# Altium integrated library Renesas Transistor.IntLib: 835 symbols (part 6 of 18)
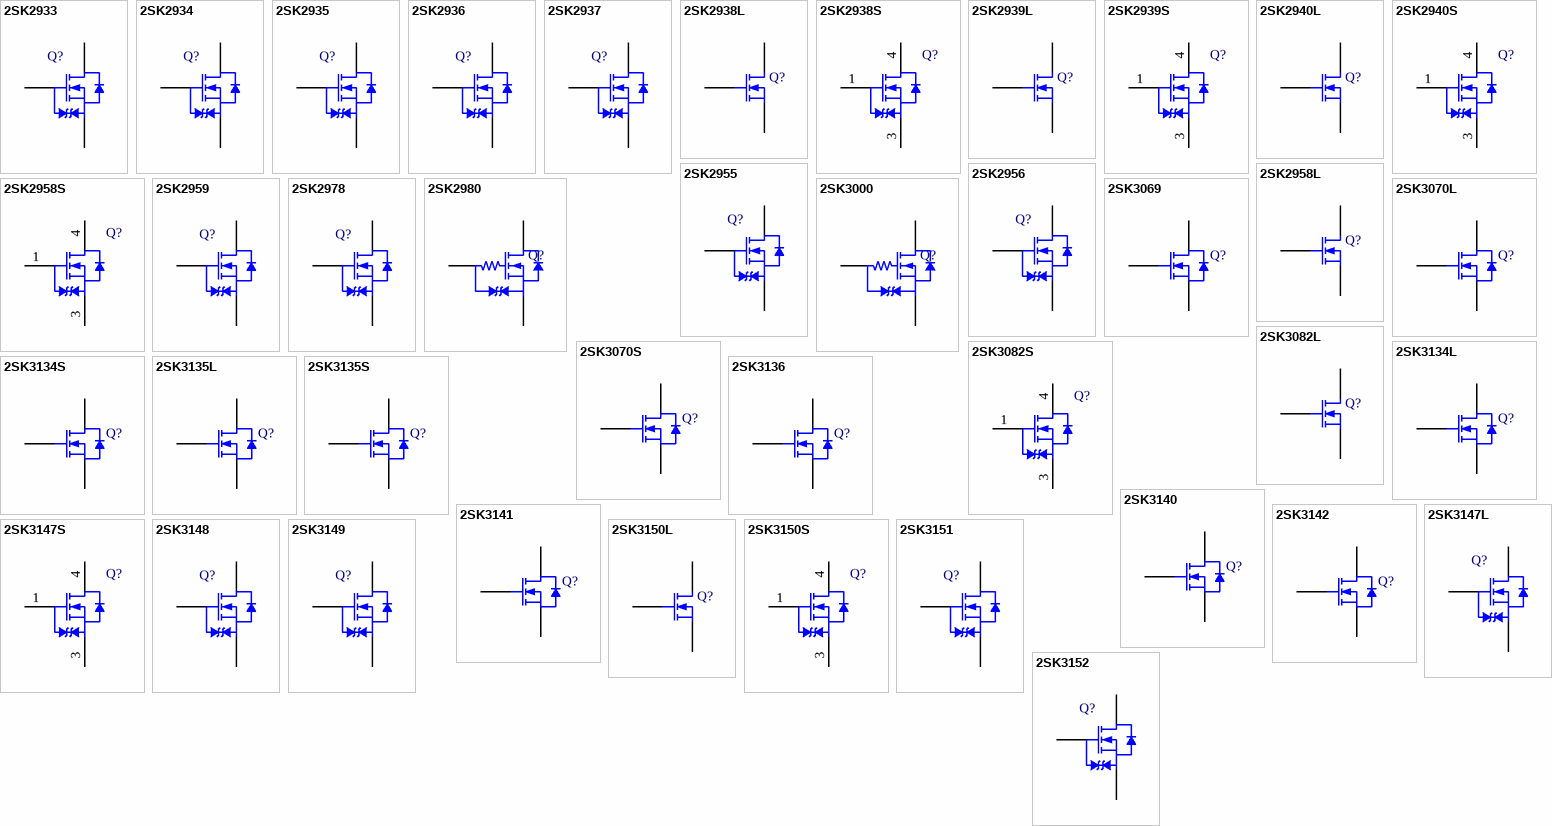
[diagram p27: symbols 2SK2933 to 2SK3152]

## 2SK2958L
designator Q?
Silicon N-Channel MOSFET, High Speed Power Switching; Published: 30-Oct-2009; DatasheetVersion: Rev.4.00, Sep-2005; PackageVersion: Sep-2005; PackageReference: PRSS0004AE-A; Publisher: Altium Limited; PackageDescription: TO, Thru-Hole, Vertical, Heatsink Mounted; 3 In-Line Leads; Pitch 2.54 mm (LDPAK(L)); ComponentLink1Description: Manufacturer Link; ComponentLink1URL: http://sg.renesas.com/fmwk.jsp?cnt=discrete_category_landing.jsp&fp=/products/discrete/; ComponentLink2Description: Datasheet; ComponentLink2URL: http://documentation.renesas.com/eng/products/transistor/rej03g1058_2sk2958lsds.pdf; ComponentLink3Description: Packaging Specification; ComponentLink3URL: http://sg.renesas.com/media/products/common_info/package/pdf/transistor/code/prss0004ae_a.pdf
footprint PRSS0004AE-A (TO, Thru-Hole, Vertical, Heatsink Mounted; 3 In-Line Leads; Pitch 2.54 mm)
pins: 1 G, 2 D, 3 S

## 2SK2958S
designator Q?
Silicon N-Channel MOSFET, High Speed Power Switching; Published: 30-Oct-2009; DatasheetVersion: Rev.4.00, Sep-2005; PackageVersion: Sep-2005; PackageReference: PRSS0004AE-B; Publisher: Altium Limited; PackageDescription: 3-Pin Plastic Transistor Outline Package 8.6 x 10.2 mm Body (LDPAK(S)-(1)); Code_JEITA: SC-83; ComponentLink1Description: Manufacturer Link; ComponentLink1URL: http://sg.renesas.com/fmwk.jsp?cnt=discrete_category_landing.jsp&fp=/products/discrete/; ComponentLink2Description: Datasheet; ComponentLink2URL: http://documentation.renesas.com/eng/products/transistor/rej03g1058_2sk2958lsds.pdf; ComponentLink3Description: Packaging Specification; ComponentLink3URL: http://sg.renesas.com/media/products/common_info/package/pdf/transistor/code/prss0004ae_b.pdf
footprint PRSS0004AE-B_N (TO, 4-Leads, Body 8.6x10.2mm, Pitch 2.54mm, Lead Span 12.8mm, IPC Medium Density)
footprint PRSS0004AE-B_L (TO, 4-Leads, Body 8.6x10.2mm, Pitch 2.54mm, Lead Span 12.8mm, IPC High Density)
footprint PRSS0004AE-B_M (TO, 4-Leads, Body 8.6x10.2mm, Pitch 2.54mm, Lead Span 12.8mm, IPC Low Density)
pins: 1 G, 3 S, 4 D

## 2SK2959
designator Q?
Silicon N-Channel MOSFET, High Speed Power Switching; Published: 30-Oct-2009; DatasheetVersion: Rev.5.00, Sep-2005; PackageVersion: Sep-2005; PackageReference: PRSS0004AC-A; Publisher: Altium Limited; PackageDescription: TO, Thru-Hole, Vertical, Heatsink Mounted; 3 In-Line Leads; Pitch 2.54 mm (TO-220AB); Code_JEITA: SC-46; ComponentLink1Description: Manufacturer Link; ComponentLink1URL: http://sg.renesas.com/fmwk.jsp?cnt=discrete_category_landing.jsp&fp=/products/discrete/; ComponentLink2Description: Datasheet; ComponentLink2URL: http://documentation.renesas.com/eng/products/transistor/rej03g1059_2sk2959ds.pdf; ComponentLink3Description: Packaging Specification; ComponentLink3URL: http://sg.renesas.com/media/products/common_info/package/pdf/transistor/code/prss0004ac_a.pdf
footprint PRSS0004AC-A (TO, Thru-Hole, Vertical, Heatsink Mounted; 3 In-Line Leads; Pitch 2.54 mm)
pins: 1 G, 2 D, 3 S

## 2SK2978
designator Q?
Silicon N-Channel MOSFET, High Speed Power Switching; Published: 30-Oct-2009; DatasheetVersion: Rev.5.00, Sep-2005; PackageVersion: Jan-2005; PackageReference: PLZZ0004CA-A; Publisher: Altium Limited; PackageDescription: 3-Pin Plastic SOT-89 Package 1.5 mm Pitch, 4 mm Lead Span; Code_JEITA: SC-62; Code_IPC: SOT89; ComponentLink1Description: Manufacturer Link; ComponentLink1URL: http://sg.renesas.com/fmwk.jsp?cnt=discrete_category_landing.jsp&fp=/products/discrete/; ComponentLink2Description: Datasheet; ComponentLink2URL: http://documentation.renesas.com/eng/products/transistor/rej03g1060_2sk2978ds.pdf; ComponentLink3Description: Packaging Specification; ComponentLink3URL: http://sg.renesas.com/media/products/common_info/package/pdf/transistor/code/plzz0004ca_a.pdf
footprint PLZZ0004CA-A_N (SOT89, 3-Leads, Body 4.5x2.5 mm, Pitch 1.5mm, Lead Span 4mm, IPC Medium Density)
footprint PLZZ0004CA-A_L (SOT89, 3-Leads, Body 4.5x2.5 mm, Pitch 1.5mm, Lead Span 4mm, IPC High Density)
footprint PLZZ0004CA-A_M (SOT89, 3-Leads, Body 4.5x2.5 mm, Pitch 1.5mm, Lead Span 4mm, IPC Low Density)
pins: 1 G, 2 D, 3 S

## 2SK2980
designator Q?
Silicon N-Channel MOSFET, High Speed Power Switching; Published: 30-Oct-2009; DatasheetVersion: Rev.4.00, Sep-2005; PackageVersion: Sep-2005; PackageReference: PLSP0003ZB-A; Publisher: Altium Limited; PackageDescription: 3-Pin Plastic SOT-23 Package 0.95 mm Pitch, 2.8 mm Lead Span - Alternate Lead Configuration; Code_JEITA: SC-59A; ComponentLink1Description: Manufacturer Link; ComponentLink1URL: http://sg.renesas.com/fmwk.jsp?cnt=discrete_category_landing.jsp&fp=/products/discrete/; ComponentLink2Description: Datasheet; ComponentLink2URL: http://documentation.renesas.com/eng/products/transistor/rej03g1061_2sk2980ds.pdf; ComponentLink3Description: Packaging Specification; ComponentLink3URL: http://sg.renesas.com/media/products/common_info/package/pdf/transistor/code/plsp0003zb_a.pdf
footprint PLSP0003ZB-A_N (SOT23, 3-Leads, Body 2.9x1.5mm, Pitch 0.95mm, Lead Span 2.8mm - Alternate Lead Configuration, IPC Medium Density)
footprint PLSP0003ZB-A_L (SOT23, 3-Leads, Body 2.9x1.5mm, Pitch 0.95mm, Lead Span 2.8mm - Alternate Lead Configuration, IPC High Density)
footprint PLSP0003ZB-A_M (SOT23, 3-Leads, Body 2.9x1.5mm, Pitch 0.95mm, Lead Span 2.8mm - Alternate Lead Configuration, IPC Low Density)
pins: 1 S, 2 G, 3 D

## 2SK3000
designator Q?
Silicon N-Channel MOSFET, Low Frequency Power Switching; Published: 30-Oct-2009; DatasheetVersion: Rev.3.00, Jun-2004; PackageVersion: Sep-2005; PackageReference: PLSP0003ZB-A; Publisher: Altium Limited; PackageDescription: 3-Pin Plastic SOT-23 Package 0.95 mm Pitch, 2.8 mm Lead Span - Alternate Lead Configuration; Code_JEITA: SC-59A; ComponentLink1Description: Manufacturer Link; ComponentLink1URL: http://sg.renesas.com/fmwk.jsp?cnt=discrete_category_landing.jsp&fp=/products/discrete/; ComponentLink2Description: Datasheet; ComponentLink2URL: http://documentation.renesas.com/eng/products/transistor/rej03g0379_2sk3000.pdf; ComponentLink3Description: Packaging Specification; ComponentLink3URL: http://sg.renesas.com/media/products/common_info/package/pdf/transistor/code/plsp0003zb_a.pdf
footprint PLSP0003ZB-A_N (SOT23, 3-Leads, Body 2.9x1.5mm, Pitch 0.95mm, Lead Span 2.8mm - Alternate Lead Configuration, IPC Medium Density)
footprint PLSP0003ZB-A_L (SOT23, 3-Leads, Body 2.9x1.5mm, Pitch 0.95mm, Lead Span 2.8mm - Alternate Lead Configuration, IPC High Density)
footprint PLSP0003ZB-A_M (SOT23, 3-Leads, Body 2.9x1.5mm, Pitch 0.95mm, Lead Span 2.8mm - Alternate Lead Configuration, IPC Low Density)
pins: 1 S, 2 G, 3 D

## 2SK3069
designator Q?
Silicon N-Channel MOSFET, High Speed Power Switching; Published: 30-Oct-2009; DatasheetVersion: Rev.11.00, Sep-2005; PackageVersion: Sep-2005; PackageReference: PRSS0004AC-A; Publisher: Altium Limited; PackageDescription: TO, Thru-Hole, Vertical, Heatsink Mounted; 3 In-Line Leads; Pitch 2.54 mm (TO-220AB); Code_JEITA: SC-46; ComponentLink1Description: Manufacturer Link; ComponentLink1URL: http://sg.renesas.com/fmwk.jsp?cnt=discrete_category_landing.jsp&fp=/products/discrete/; ComponentLink2Description: Datasheet; ComponentLink2URL: http://documentation.renesas.com/eng/products/transistor/rej03g1062_2sk3069ds.pdf; ComponentLink3Description: Packaging Specification; ComponentLink3URL: http://sg.renesas.com/media/products/common_info/package/pdf/transistor/code/prss0004ac_a.pdf
footprint PRSS0004AC-A (TO, Thru-Hole, Vertical, Heatsink Mounted; 3 In-Line Leads; Pitch 2.54 mm)
pins: 1 G, 2 D, 3 S

## 2SK3070L
designator Q?
Silicon N-Channel MOSFET, High Speed Power Switching; Published: 30-Oct-2009; DatasheetVersion: Rev.9.00, Sep-2005; PackageVersion: Sep-2005; PackageReference: PRSS0004AE-A; Publisher: Altium Limited; PackageDescription: TO, Thru-Hole, Vertical, Heatsink Mounted; 3 In-Line Leads; Pitch 2.54 mm (LDPAK(L)); ComponentLink1Description: Manufacturer Link; ComponentLink1URL: http://sg.renesas.com/fmwk.jsp?cnt=discrete_category_landing.jsp&fp=/products/discrete/; ComponentLink2Description: Datasheet; ComponentLink2URL: http://documentation.renesas.com/eng/products/transistor/rej03g1063_2sk3070lsds.pdf; ComponentLink3Description: Packaging Specification; ComponentLink3URL: http://sg.renesas.com/media/products/common_info/package/pdf/transistor/code/prss0004ae_a.pdf
footprint PRSS0004AE-A (TO, Thru-Hole, Vertical, Heatsink Mounted; 3 In-Line Leads; Pitch 2.54 mm)
pins: 1 G, 2 D, 3 S

## 2SK3070S
designator Q?
Silicon N-Channel MOSFET, High Speed Power Switching; Published: 30-Oct-2009; DatasheetVersion: Rev.9.00, Sep-2005; PackageVersion: Sep-2005; PackageReference: PRSS0004AE-C; Publisher: Altium Limited; PackageDescription: 3-Pin Plastic Transistor Outline Package 8.6 x 10.2 mm Body (LDPAK(S)-(2)); ComponentLink1Description: Manufacturer Link; ComponentLink1URL: http://sg.renesas.com/fmwk.jsp?cnt=discrete_category_landing.jsp&fp=/products/discrete/; ComponentLink2Description: Datasheet; ComponentLink2URL: http://documentation.renesas.com/eng/products/transistor/rej03g1063_2sk3070lsds.pdf; ComponentLink3Description: Packaging Specification; ComponentLink3URL: http://sg.renesas.com/media/products/common_info/package/pdf/transistor/code/prss0004ae_c.pdf
footprint PRSS0004AE-C_N (D2-PAK, 4-Leads, Body 8.6x10.2mm, Pitch 2.54mm, Lead Span 15mm, IPC Medium Density)
footprint PRSS0004AE-C_L (D2-PAK, 4-Leads, Body 8.6x10.2mm, Pitch 2.54mm, Lead Span 15mm, IPC High Density)
footprint PRSS0004AE-C_M (D2-PAK, 4-Leads, Body 8.6x10.2mm, Pitch 2.54mm, Lead Span 15mm, IPC Low Density)
pins: 1 G, 3 S, 4 D

## 2SK3082L
designator Q?
Silicon N-Channel MOSFET, High Speed Power Switching; Published: 30-Oct-2009; DatasheetVersion: Rev.3.00, Sep-2005; PackageVersion: Sep-2005; PackageReference: PRSS0004AE-A; Publisher: Altium Limited; PackageDescription: TO, Thru-Hole, Vertical, Heatsink Mounted; 3 In-Line Leads; Pitch 2.54 mm (LDPAK(L)); ComponentLink1Description: Manufacturer Link; ComponentLink1URL: http://sg.renesas.com/fmwk.jsp?cnt=discrete_category_landing.jsp&fp=/products/discrete/; ComponentLink2Description: Datasheet; ComponentLink2URL: http://documentation.renesas.com/eng/products/transistor/rej03g1065_2sk3082lsds.pdf; ComponentLink3Description: Packaging Specification; ComponentLink3URL: http://sg.renesas.com/media/products/common_info/package/pdf/transistor/code/prss0004ae_a.pdf
footprint PRSS0004AE-A (TO, Thru-Hole, Vertical, Heatsink Mounted; 3 In-Line Leads; Pitch 2.54 mm)
pins: 1 G, 2 D, 3 S

## 2SK3082S
designator Q?
Silicon N-Channel MOSFET, High Speed Power Switching; Published: 30-Oct-2009; DatasheetVersion: Rev.3.00, Sep-2005; PackageVersion: Sep-2005; PackageReference: PRSS0004AE-B; Publisher: Altium Limited; PackageDescription: 3-Pin Plastic Transistor Outline Package 8.6 x 10.2 mm Body (LDPAK(S)-(1)); Code_JEITA: SC-83; ComponentLink1Description: Manufacturer Link; ComponentLink1URL: http://sg.renesas.com/fmwk.jsp?cnt=discrete_category_landing.jsp&fp=/products/discrete/; ComponentLink2Description: Datasheet; ComponentLink2URL: http://documentation.renesas.com/eng/products/transistor/rej03g1065_2sk3082lsds.pdf; ComponentLink3Description: Packaging Specification; ComponentLink3URL: http://sg.renesas.com/media/products/common_info/package/pdf/transistor/code/prss0004ae_b.pdf
footprint PRSS0004AE-B_N (TO, 4-Leads, Body 8.6x10.2mm, Pitch 2.54mm, Lead Span 12.8mm, IPC Medium Density)
footprint PRSS0004AE-B_L (TO, 4-Leads, Body 8.6x10.2mm, Pitch 2.54mm, Lead Span 12.8mm, IPC High Density)
footprint PRSS0004AE-B_M (TO, 4-Leads, Body 8.6x10.2mm, Pitch 2.54mm, Lead Span 12.8mm, IPC Low Density)
pins: 1 G, 3 S, 4 D

## 2SK3134L
designator Q?
Silicon N-Channel MOSFET, High Speed Power Switching; Published: 30-Oct-2009; DatasheetVersion: Rev.4.00, Sep-2005; PackageVersion: Sep-2005; PackageReference: PRSS0004AE-A; Publisher: Altium Limited; PackageDescription: TO, Thru-Hole, Vertical, Heatsink Mounted; 3 In-Line Leads; Pitch 2.54 mm (LDPAK(L)); ComponentLink1Description: Manufacturer Link; ComponentLink1URL: http://sg.renesas.com/fmwk.jsp?cnt=discrete_category_landing.jsp&fp=/products/discrete/; ComponentLink2Description: Datasheet; ComponentLink2URL: http://documentation.renesas.com/eng/products/transistor/rej03g1066_2sk3134lsds.pdf; ComponentLink3Description: Packaging Specification; ComponentLink3URL: http://sg.renesas.com/media/products/common_info/package/pdf/transistor/code/prss0004ae_a.pdf
footprint PRSS0004AE-A (TO, Thru-Hole, Vertical, Heatsink Mounted; 3 In-Line Leads; Pitch 2.54 mm)
pins: 1 G, 2 D, 3 S

## 2SK3134S
designator Q?
Silicon N-Channel MOSFET, High Speed Power Switching; Published: 30-Oct-2009; DatasheetVersion: Rev.4.00, Sep-2005; PackageVersion: Sep-2005; PackageReference: PRSS0004AE-B; Publisher: Altium Limited; PackageDescription: 3-Pin Plastic Transistor Outline Package 8.6 x 10.2 mm Body (LDPAK(S)-(1)); Code_JEITA: SC-83; ComponentLink1Description: Manufacturer Link; ComponentLink1URL: http://sg.renesas.com/fmwk.jsp?cnt=discrete_category_landing.jsp&fp=/products/discrete/; ComponentLink2Description: Datasheet; ComponentLink2URL: http://documentation.renesas.com/eng/products/transistor/rej03g1066_2sk3134lsds.pdf; ComponentLink3Description: Packaging Specification; ComponentLink3URL: http://sg.renesas.com/media/products/common_info/package/pdf/transistor/code/prss0004ae_b.pdf
footprint PRSS0004AE-B_N (TO, 4-Leads, Body 8.6x10.2mm, Pitch 2.54mm, Lead Span 12.8mm, IPC Medium Density)
footprint PRSS0004AE-B_L (TO, 4-Leads, Body 8.6x10.2mm, Pitch 2.54mm, Lead Span 12.8mm, IPC High Density)
footprint PRSS0004AE-B_M (TO, 4-Leads, Body 8.6x10.2mm, Pitch 2.54mm, Lead Span 12.8mm, IPC Low Density)
pins: 1 G, 3 S, 4 D

## 2SK3135L
designator Q?
Silicon N-Channel MOSFET, High Speed Power Switching; Published: 30-Oct-2009; DatasheetVersion: Rev.4.00, Sep-2005; PackageVersion: Sep-2005; PackageReference: PRSS0004AE-A; Publisher: Altium Limited; PackageDescription: TO, Thru-Hole, Vertical, Heatsink Mounted; 3 In-Line Leads; Pitch 2.54 mm (LDPAK(L)); ComponentLink1Description: Manufacturer Link; ComponentLink1URL: http://sg.renesas.com/fmwk.jsp?cnt=discrete_category_landing.jsp&fp=/products/discrete/; ComponentLink2Description: Datasheet; ComponentLink2URL: http://documentation.renesas.com/eng/products/transistor/rej03g1067_2sk3135lsds.pdf; ComponentLink3Description: Packaging Specification; ComponentLink3URL: http://sg.renesas.com/media/products/common_info/package/pdf/transistor/code/prss0004ae_a.pdf
footprint PRSS0004AE-A (TO, Thru-Hole, Vertical, Heatsink Mounted; 3 In-Line Leads; Pitch 2.54 mm)
pins: 1 G, 2 D, 3 S

## 2SK3135S
designator Q?
Silicon N-Channel MOSFET, High Speed Power Switching; Published: 30-Oct-2009; DatasheetVersion: Rev.4.00, Sep-2005; PackageVersion: Sep-2005; PackageReference: PRSS0004AE-B; Publisher: Altium Limited; PackageDescription: 3-Pin Plastic Transistor Outline Package 8.6 x 10.2 mm Body (LDPAK(S)-(1)); Code_JEITA: SC-83; ComponentLink1Description: Manufacturer Link; ComponentLink1URL: http://sg.renesas.com/fmwk.jsp?cnt=discrete_category_landing.jsp&fp=/products/discrete/; ComponentLink2Description: Datasheet; ComponentLink2URL: http://documentation.renesas.com/eng/products/transistor/rej03g1067_2sk3135lsds.pdf; ComponentLink3Description: Packaging Specification; ComponentLink3URL: http://sg.renesas.com/media/products/common_info/package/pdf/transistor/code/prss0004ae_b.pdf
footprint PRSS0004AE-B_N (TO, 4-Leads, Body 8.6x10.2mm, Pitch 2.54mm, Lead Span 12.8mm, IPC Medium Density)
footprint PRSS0004AE-B_L (TO, 4-Leads, Body 8.6x10.2mm, Pitch 2.54mm, Lead Span 12.8mm, IPC High Density)
footprint PRSS0004AE-B_M (TO, 4-Leads, Body 8.6x10.2mm, Pitch 2.54mm, Lead Span 12.8mm, IPC Low Density)
pins: 1 G, 3 S, 4 D

## 2SK3136
designator Q?
Silicon N-Channel MOSFET, High Speed Power Switching; Published: 30-Oct-2009; DatasheetVersion: Rev.4.00, Sep-2005; PackageVersion: Sep-2005; PackageReference: PRSS0004AC-A; Publisher: Altium Limited; PackageDescription: TO, Thru-Hole, Vertical, Heatsink Mounted; 3 In-Line Leads; Pitch 2.54 mm (TO-220AB); Code_JEITA: SC-46; ComponentLink1Description: Manufacturer Link; ComponentLink1URL: http://sg.renesas.com/fmwk.jsp?cnt=discrete_category_landing.jsp&fp=/products/discrete/; ComponentLink2Description: Datasheet; ComponentLink2URL: http://documentation.renesas.com/eng/products/transistor/rej03g1068_2sk3136ds.pdf; ComponentLink3Description: Packaging Specification; ComponentLink3URL: http://sg.renesas.com/media/products/common_info/package/pdf/transistor/code/prss0004ac_a.pdf
footprint PRSS0004AC-A (TO, Thru-Hole, Vertical, Heatsink Mounted; 3 In-Line Leads; Pitch 2.54 mm)
pins: 1 G, 2 D, 3 S

## 2SK3140
designator Q?
Silicon N-Channel MOSFET, High Speed Power Switching; Published: 30-Oct-2009; DatasheetVersion: Rev.5.00, Sep-2005; PackageVersion: Sep-2005; PackageReference: PRSS0003AE-A; Publisher: Altium Limited; PackageDescription: TO, Thru-Hole, Vertical, Heatsink Mounted; 3 In-Line Leads; Pitch 2.54 mm (TO-220FN); ComponentLink1Description: Manufacturer Link; ComponentLink1URL: http://sg.renesas.com/fmwk.jsp?cnt=discrete_category_landing.jsp&fp=/products/discrete/; ComponentLink2Description: Datasheet; ComponentLink2URL: http://documentation.renesas.com/eng/products/transistor/rej03g1069_2sk3140ds.pdf; ComponentLink3Description: Packaging Specification; ComponentLink3URL: http://sg.renesas.com/media/products/common_info/package/pdf/transistor/code/prss0003ae_a.pdf
footprint PRSS0003AE-A (TO, Thru-Hole, Vertical, Heatsink Mounted; 3 In-Line Leads; Pitch 2.54 mm)
pins: 1 G, 2 D, 3 S

## 2SK3141
designator Q?
Silicon N-Channel MOSFET, High Speed Power Switching; Published: 30-Oct-2009; DatasheetVersion: Rev.4.00, Sep-2005; PackageVersion: Sep-2005; PackageReference: PRSS0004AC-A; Publisher: Altium Limited; PackageDescription: TO, Thru-Hole, Vertical, Heatsink Mounted; 3 In-Line Leads; Pitch 2.54 mm (TO-220AB); Code_JEITA: SC-46; ComponentLink1Description: Manufacturer Link; ComponentLink1URL: http://sg.renesas.com/fmwk.jsp?cnt=discrete_category_landing.jsp&fp=/products/discrete/; ComponentLink2Description: Datasheet; ComponentLink2URL: http://documentation.renesas.com/eng/products/transistor/rej03g1070_2sk3141ds.pdf; ComponentLink3Description: Packaging Specification; ComponentLink3URL: http://sg.renesas.com/media/products/common_info/package/pdf/transistor/code/prss0004ac_a.pdf
footprint PRSS0004AC-A (TO, Thru-Hole, Vertical, Heatsink Mounted; 3 In-Line Leads; Pitch 2.54 mm)
pins: 1 G, 2 D, 3 S

## 2SK3142
designator Q?
Silicon N-Channel MOSFET, High Speed Power Switching; Published: 30-Oct-2009; DatasheetVersion: Rev.3.00, Sep-2005; PackageVersion: Sep-2005; PackageReference: PRSS0003AE-A; Publisher: Altium Limited; PackageDescription: TO, Thru-Hole, Vertical, Heatsink Mounted; 3 In-Line Leads; Pitch 2.54 mm (TO-220FN); ComponentLink1Description: Manufacturer Link; ComponentLink1URL: http://sg.renesas.com/fmwk.jsp?cnt=discrete_category_landing.jsp&fp=/products/discrete/; ComponentLink2Description: Datasheet; ComponentLink2URL: http://documentation.renesas.com/eng/products/transistor/rej03g1071_2sk3142ds.pdf; ComponentLink3Description: Packaging Specification; ComponentLink3URL: http://sg.renesas.com/media/products/common_info/package/pdf/transistor/code/prss0003ae_a.pdf
footprint PRSS0003AE-A (TO, Thru-Hole, Vertical, Heatsink Mounted; 3 In-Line Leads; Pitch 2.54 mm)
pins: 1 G, 2 D, 3 S

## 2SK3147L
designator Q?
Silicon N-Channel MOSFET, High Speed Power Switching; Published: 30-Oct-2009; DatasheetVersion: Rev.2.00, Sep-2005; PackageVersion: Sep-2005; PackageReference: PRSS0004ZD-B; Publisher: Altium Limited; PackageDescription: TO, Thru-Hole, Vertical, Heatsink Mounted; 3 In-Line Leads (DPAK(L)-(2)); ComponentLink1Description: Manufacturer Link; ComponentLink1URL: http://sg.renesas.com/fmwk.jsp?cnt=discrete_category_landing.jsp&fp=/products/discrete/; ComponentLink2Description: Datasheet; ComponentLink2URL: http://documentation.renesas.com/eng/products/transistor/rej03g1072_2sk3147lsds.pdf; ComponentLink3Description: Packaging Specification; ComponentLink3URL: http://sg.renesas.com/media/products/common_info/package/pdf/transistor/code/prss0004zd_b.pdf
footprint PRSS0004ZD-B (TO, Thru-Hole, Vertical, Heatsink Mounted; 3 In-Line Leads; Pitch 2.28 mm)
pins: 1 G, 2 D, 3 S

## 2SK3147S
designator Q?
Silicon N-Channel MOSFET, High Speed Power Switching; Published: 30-Oct-2009; DatasheetVersion: Rev.2.00, Sep-2005; PackageVersion: Jan-2006; PackageReference: PRSS0004ZD-C; Publisher: Altium Limited; PackageDescription: 3-Pin Plastic Transistor Outline Package, 5.5 x 6.5 mm Body (DPAK(S)); Code_JEITA: SC-63; ComponentLink1Description: Manufacturer Link; ComponentLink1URL: http://sg.renesas.com/fmwk.jsp?cnt=discrete_category_landing.jsp&fp=/products/discrete/; ComponentLink2Description: Datasheet; ComponentLink2URL: http://documentation.renesas.com/eng/products/transistor/rej03g1072_2sk3147lsds.pdf; ComponentLink3Description: Packaging Specification; ComponentLink3URL: http://sg.renesas.com/media/products/common_info/package/pdf/transistor/code/prss0004zd_c.pdf
footprint PRSS0004ZD-C_N (D-PAK, 4-Leads, Body 5.5x6.5mm, Pitch 2.3mm, Lead Span 9.9mm, IPC Medium Density)
footprint PRSS0004ZD-C_L (D-PAK, 4-Leads, Body 5.5x6.5mm, Pitch 2.3mm, Lead Span 9.9mm, IPC High Density)
footprint PRSS0004ZD-C_M (D-PAK, 4-Leads, Body 5.5x6.5mm, Pitch 2.3mm, Lead Span 9.9mm, IPC Low Density)
pins: 1 G, 3 S, 4 D

## 2SK3148
designator Q?
Silicon N-Channel MOSFET, High Speed Power Switching; Published: 30-Oct-2009; DatasheetVersion: Rev.2.00, Sep-2005; PackageVersion: Sep-2005; PackageReference: PRSS0003AD-A; Publisher: Altium Limited; PackageDescription: TO, Thru-Hole, Vertical, Heatsink Mounted; 3 In-Line Leads; Pitch 2.54 mm; Code_JEITA: SC-67; ComponentLink1Description: Manufacturer Link; ComponentLink1URL: http://sg.renesas.com/fmwk.jsp?cnt=discrete_category_landing.jsp&fp=/products/discrete/; ComponentLink2Description: Datasheet; ComponentLink2URL: http://documentation.renesas.com/eng/products/transistor/rej03g1073_2sk3148ds.pdf; ComponentLink3Description: Packaging Specification; ComponentLink3URL: http://sg.renesas.com/media/products/common_info/package/pdf/transistor/code/prss0003ad_a.pdf
footprint PRSS0003AD-A (TO, Thru-Hole, Vertical, Heatsink Mounted; 3 In-Line Leads; Pitch 2.54 mm)
pins: 1 G, 2 D, 3 S

## 2SK3149
designator Q?
Silicon N-Channel MOSFET, High Speed Power Switching; Published: 30-Oct-2009; DatasheetVersion: Rev.4.00, Sep-2005; PackageVersion: Sep-2005; PackageReference: PRSS0004AC-A; Publisher: Altium Limited; PackageDescription: TO, Thru-Hole, Vertical, Heatsink Mounted; 3 In-Line Leads; Pitch 2.54 mm (TO-220AB); Code_JEITA: SC-46; ComponentLink1Description: Manufacturer Link; ComponentLink1URL: http://sg.renesas.com/fmwk.jsp?cnt=discrete_category_landing.jsp&fp=/products/discrete/; ComponentLink2Description: Datasheet; ComponentLink2URL: http://documentation.renesas.com/eng/products/transistor/rej03g1074_2sk3149ds.pdf; ComponentLink3Description: Packaging Specification; ComponentLink3URL: http://sg.renesas.com/media/products/common_info/package/pdf/transistor/code/prss0004ac_a.pdf
footprint PRSS0004AC-A (TO, Thru-Hole, Vertical, Heatsink Mounted; 3 In-Line Leads; Pitch 2.54 mm)
pins: 1 G, 2 D, 3 S

## 2SK3150L
designator Q?
Silicon N-Channel MOSFET, High Speed Power Switching; Published: 30-Oct-2009; DatasheetVersion: Rev.4.00, Sep-2005; PackageVersion: Sep-2005; PackageReference: PRSS0004AE-A; Publisher: Altium Limited; PackageDescription: TO, Thru-Hole, Vertical, Heatsink Mounted; 3 In-Line Leads; Pitch 2.54 mm (LDPAK(L)); ComponentLink1Description: Manufacturer Link; ComponentLink1URL: http://sg.renesas.com/fmwk.jsp?cnt=discrete_category_landing.jsp&fp=/products/discrete/; ComponentLink2Description: Datasheet; ComponentLink2URL: http://documentation.renesas.com/eng/products/transistor/rej03g1075_2sk3150lsds.pdf; ComponentLink3Description: Packaging Specification; ComponentLink3URL: http://sg.renesas.com/media/products/common_info/package/pdf/transistor/code/prss0004ae_a.pdf
footprint PRSS0004AE-A (TO, Thru-Hole, Vertical, Heatsink Mounted; 3 In-Line Leads; Pitch 2.54 mm)
pins: 1 G, 2 D, 3 S

## 2SK3150S
designator Q?
Silicon N-Channel MOSFET, High Speed Power Switching; Published: 30-Oct-2009; DatasheetVersion: Rev.4.00, Sep-2005; PackageVersion: Sep-2005; PackageReference: PRSS0004AE-B; Publisher: Altium Limited; PackageDescription: 3-Pin Plastic Transistor Outline Package 8.6 x 10.2 mm Body (LDPAK(S)-(1)); Code_JEITA: SC-83; ComponentLink1Description: Manufacturer Link; ComponentLink1URL: http://sg.renesas.com/fmwk.jsp?cnt=discrete_category_landing.jsp&fp=/products/discrete/; ComponentLink2Description: Datasheet; ComponentLink2URL: http://documentation.renesas.com/eng/products/transistor/rej03g1075_2sk3150lsds.pdf; ComponentLink3Description: Packaging Specification; ComponentLink3URL: http://sg.renesas.com/media/products/common_info/package/pdf/transistor/code/prss0004ae_b.pdf
footprint PRSS0004AE-B_N (TO, 4-Leads, Body 8.6x10.2mm, Pitch 2.54mm, Lead Span 12.8mm, IPC Medium Density)
footprint PRSS0004AE-B_L (TO, 4-Leads, Body 8.6x10.2mm, Pitch 2.54mm, Lead Span 12.8mm, IPC High Density)
footprint PRSS0004AE-B_M (TO, 4-Leads, Body 8.6x10.2mm, Pitch 2.54mm, Lead Span 12.8mm, IPC Low Density)
pins: 1 G, 3 S, 4 D

## 2SK3151
designator Q?
Silicon N-Channel MOSFET, High Speed Power Switching; Published: 30-Oct-2009; DatasheetVersion: Rev.4.00, Sep-2005; PackageVersion: Sep-2005; PackageReference: PRSS0004ZE-A; Publisher: Altium Limited; PackageDescription: TO, Thru-Hole, Vertical, Heatsink Mounted; 3 In-Line Leads; Pitch 5.45 mm (TO-3P); Code_JEITA: SC-65; ComponentLink1Description: Manufacturer Link; ComponentLink1URL: http://sg.renesas.com/fmwk.jsp?cnt=discrete_category_landing.jsp&fp=/products/discrete/; ComponentLink2Description: Datasheet; ComponentLink2URL: http://documentation.renesas.com/eng/products/transistor/rej03g1076_2sk3151ds.pdf; ComponentLink3Description: Packaging Specification; ComponentLink3URL: http://sg.renesas.com/media/products/common_info/package/pdf/transistor/code/prss0004ze_a.pdf
footprint PRSS0004ZE-A (TO, Thru-Hole, Vertical, Heatsink Mounted; 3 In-Line Leads; Pitch 5.45 mm)
pins: 1 G, 2 D, 3 S

## 2SK3152
designator Q?
Silicon N-Channel MOSFET, High Speed Power Switching; Published: 30-Oct-2009; DatasheetVersion: Rev.2.00, Sep-2005; PackageVersion: Sep-2005; PackageReference: PRSS0003AD-A; Publisher: Altium Limited; PackageDescription: TO, Thru-Hole, Vertical, Heatsink Mounted; 3 In-Line Leads; Pitch 2.54 mm; Code_JEITA: SC-67; ComponentLink1Description: Manufacturer Link; ComponentLink1URL: http://sg.renesas.com/fmwk.jsp?cnt=discrete_category_landing.jsp&fp=/products/discrete/; ComponentLink2Description: Datasheet; ComponentLink2URL: http://documentation.renesas.com/eng/products/transistor/rej03g1077_2sk3152ds.pdf; ComponentLink3Description: Packaging Specification; ComponentLink3URL: http://sg.renesas.com/media/products/common_info/package/pdf/transistor/code/prss0003ad_a.pdf
footprint PRSS0003AD-A (TO, Thru-Hole, Vertical, Heatsink Mounted; 3 In-Line Leads; Pitch 2.54 mm)
pins: 1 G, 2 D, 3 S

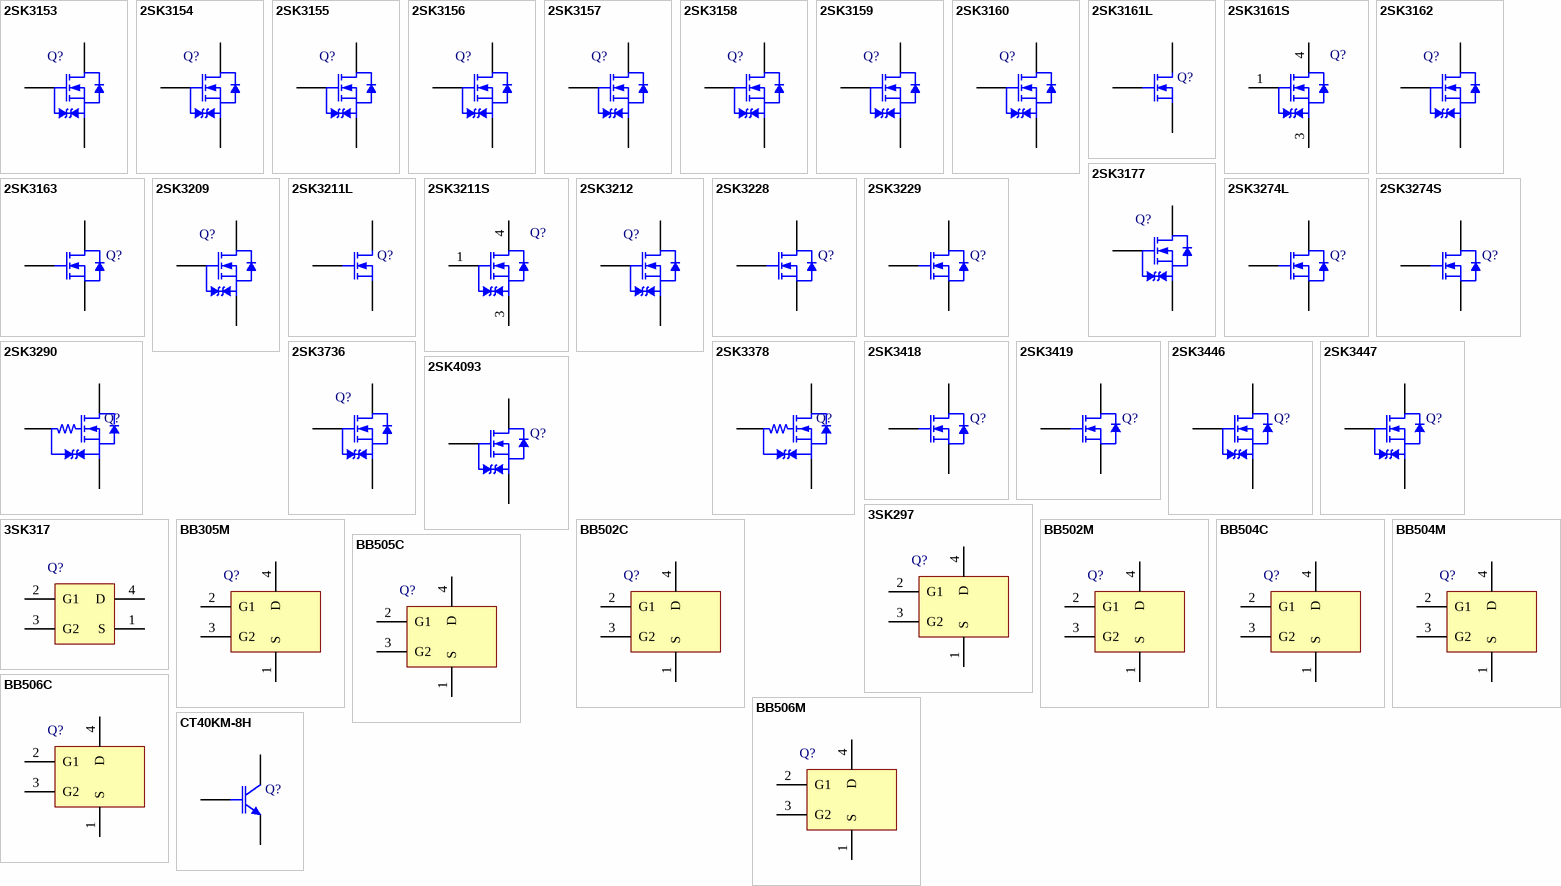
[diagram p7: symbols 2SK3153 to CT40KM-8H]

## 2SK3153
designator Q?
Silicon N-Channel MOSFET, High Speed Power Switching; Published: 30-Oct-2009; DatasheetVersion: Rev.3.00, Sep-2005; PackageVersion: Sep-2005; PackageReference: PRSS0003AD-A; Publisher: Altium Limited; PackageDescription: TO, Thru-Hole, Vertical, Heatsink Mounted; 3 In-Line Leads; Pitch 2.54 mm; Code_JEITA: SC-67; ComponentLink1Description: Manufacturer Link; ComponentLink1URL: http://sg.renesas.com/fmwk.jsp?cnt=discrete_category_landing.jsp&fp=/products/discrete/; ComponentLink2Description: Datasheet; ComponentLink2URL: http://documentation.renesas.com/eng/products/transistor/rej03g1078_2sk3153ds.pdf; ComponentLink3Description: Packaging Specification; ComponentLink3URL: http://sg.renesas.com/media/products/common_info/package/pdf/transistor/code/prss0003ad_a.pdf
footprint PRSS0003AD-A (TO, Thru-Hole, Vertical, Heatsink Mounted; 3 In-Line Leads; Pitch 2.54 mm)
pins: 1 G, 2 D, 3 S

## 2SK3154
designator Q?
Silicon N-Channel MOSFET, High Speed Power Switching; Published: 30-Oct-2009; DatasheetVersion: Rev.3.00, Sep-2005; PackageVersion: Sep-2005; PackageReference: PRSS0004AC-A; Publisher: Altium Limited; PackageDescription: TO, Thru-Hole, Vertical, Heatsink Mounted; 3 In-Line Leads; Pitch 2.54 mm (TO-220AB); Code_JEITA: SC-46; ComponentLink1Description: Manufacturer Link; ComponentLink1URL: http://sg.renesas.com/fmwk.jsp?cnt=discrete_category_landing.jsp&fp=/products/discrete/; ComponentLink2Description: Datasheet; ComponentLink2URL: http://documentation.renesas.com/eng/products/transistor/rej03g1079_2sk3154ds.pdf; ComponentLink3Description: Packaging Specification; ComponentLink3URL: http://sg.renesas.com/media/products/common_info/package/pdf/transistor/code/prss0004ac_a.pdf
footprint PRSS0004AC-A (TO, Thru-Hole, Vertical, Heatsink Mounted; 3 In-Line Leads; Pitch 2.54 mm)
pins: 1 G, 2 D, 3 S

## 2SK3155
designator Q?
Silicon N-Channel MOSFET, High Speed Power Switching; Published: 30-Oct-2009; DatasheetVersion: Rev.5.00, Sep-2005; PackageVersion: Sep-2005; PackageReference: PRSS0003AD-A; Publisher: Altium Limited; PackageDescription: TO, Thru-Hole, Vertical, Heatsink Mounted; 3 In-Line Leads; Pitch 2.54 mm; Code_JEITA: SC-67; ComponentLink1Description: Manufacturer Link; ComponentLink1URL: http://sg.renesas.com/fmwk.jsp?cnt=discrete_category_landing.jsp&fp=/products/discrete/; ComponentLink2Description: Datasheet; ComponentLink2URL: http://documentation.renesas.com/eng/products/transistor/rej03g1080_2sk3155ds.pdf; ComponentLink3Description: Packaging Specification; ComponentLink3URL: http://sg.renesas.com/media/products/common_info/package/pdf/transistor/code/prss0003ad_a.pdf
footprint PRSS0003AD-A (TO, Thru-Hole, Vertical, Heatsink Mounted; 3 In-Line Leads; Pitch 2.54 mm)
pins: 1 G, 2 D, 3 S

## 2SK3156
designator Q?
Silicon N-Channel MOSFET, High Speed Power Switching; Published: 30-Oct-2009; DatasheetVersion: Rev.3.01, Apr-2006; PackageVersion: Sep-2005; PackageReference: PRSS0004AC-A; Publisher: Altium Limited; PackageDescription: TO, Thru-Hole, Vertical, Heatsink Mounted; 3 In-Line Leads; Pitch 2.54 mm (TO-220AB); Code_JEITA: SC-46; ComponentLink1Description: Manufacturer Link; ComponentLink1URL: http://sg.renesas.com/fmwk.jsp?cnt=discrete_category_landing.jsp&fp=/products/discrete/; ComponentLink2Description: Datasheet; ComponentLink2URL: http://documentation.renesas.com/eng/products/transistor/rej03g1081_2sk3156ds.pdf; ComponentLink3Description: Packaging Specification; ComponentLink3URL: http://sg.renesas.com/media/products/common_info/package/pdf/transistor/code/prss0004ac_a.pdf
footprint PRSS0004AC-A (TO, Thru-Hole, Vertical, Heatsink Mounted; 3 In-Line Leads; Pitch 2.54 mm)
pins: 1 G, 2 D, 3 S

## 2SK3157
designator Q?
Silicon N-Channel MOSFET, High Speed Power Switching; Published: 30-Oct-2009; DatasheetVersion: Rev.3.00, Sep-2005; PackageVersion: Sep-2005; PackageReference: PRSS0003AD-A; Publisher: Altium Limited; PackageDescription: TO, Thru-Hole, Vertical, Heatsink Mounted; 3 In-Line Leads; Pitch 2.54 mm; Code_JEITA: SC-67; ComponentLink1Description: Manufacturer Link; ComponentLink1URL: http://sg.renesas.com/fmwk.jsp?cnt=discrete_category_landing.jsp&fp=/products/discrete/; ComponentLink2Description: Datasheet; ComponentLink2URL: http://documentation.renesas.com/eng/products/transistor/rej03g1082_2sk3157ds.pdf; ComponentLink3Description: Packaging Specification; ComponentLink3URL: http://sg.renesas.com/media/products/common_info/package/pdf/transistor/code/prss0003ad_a.pdf
footprint PRSS0003AD-A (TO, Thru-Hole, Vertical, Heatsink Mounted; 3 In-Line Leads; Pitch 2.54 mm)
pins: 1 G, 2 D, 3 S

## 2SK3158
designator Q?
Silicon N-Channel MOSFET, High Speed Power Switching; Published: 30-Oct-2009; DatasheetVersion: Rev.4.00, Sep-2005; PackageVersion: Sep-2005; PackageReference: PRSS0004AC-A; Publisher: Altium Limited; PackageDescription: TO, Thru-Hole, Vertical, Heatsink Mounted; 3 In-Line Leads; Pitch 2.54 mm (TO-220AB); Code_JEITA: SC-46; ComponentLink1Description: Manufacturer Link; ComponentLink1URL: http://sg.renesas.com/fmwk.jsp?cnt=discrete_category_landing.jsp&fp=/products/discrete/; ComponentLink2Description: Datasheet; ComponentLink2URL: http://documentation.renesas.com/eng/products/transistor/rej03g1083_2sk3158ds.pdf; ComponentLink3Description: Packaging Specification; ComponentLink3URL: http://sg.renesas.com/media/products/common_info/package/pdf/transistor/code/prss0004ac_a.pdf
footprint PRSS0004AC-A (TO, Thru-Hole, Vertical, Heatsink Mounted; 3 In-Line Leads; Pitch 2.54 mm)
pins: 1 G, 2 D, 3 S

## 2SK3159
designator Q?
Silicon N-Channel MOSFET, High Speed Power Switching; Published: 30-Oct-2009; DatasheetVersion: Rev.4.00, May-2006; PackageVersion: Sep-2005; PackageReference: PRSS0004ZE-A; Publisher: Altium Limited; PackageDescription: TO, Thru-Hole, Vertical, Heatsink Mounted; 3 In-Line Leads; Pitch 5.45 mm (TO-3P); Code_JEITA: SC-65; ComponentLink1Description: Manufacturer Link; ComponentLink1URL: http://sg.renesas.com/fmwk.jsp?cnt=discrete_category_landing.jsp&fp=/products/discrete/; ComponentLink2Description: Datasheet; ComponentLink2URL: http://documentation.renesas.com/eng/products/transistor/rej03g1084_2sk3159ds.pdf; ComponentLink3Description: Packaging Specification; ComponentLink3URL: http://sg.renesas.com/media/products/common_info/package/pdf/transistor/code/prss0004ze_a.pdf
footprint PRSS0004ZE-A (TO, Thru-Hole, Vertical, Heatsink Mounted; 3 In-Line Leads; Pitch 5.45 mm)
pins: 1 G, 2 D, 3 S

## 2SK3160
designator Q?
Silicon N-Channel MOSFET, High Speed Power Switching; Published: 30-Oct-2009; DatasheetVersion: Rev.3.00, Sep-2005; PackageVersion: Sep-2005; PackageReference: PRSS0003AD-A; Publisher: Altium Limited; PackageDescription: TO, Thru-Hole, Vertical, Heatsink Mounted; 3 In-Line Leads; Pitch 2.54 mm; Code_JEITA: SC-67; ComponentLink1Description: Manufacturer Link; ComponentLink1URL: http://sg.renesas.com/fmwk.jsp?cnt=discrete_category_landing.jsp&fp=/products/discrete/; ComponentLink2Description: Datasheet; ComponentLink2URL: http://documentation.renesas.com/eng/products/transistor/rej03g1085_2sk3160ds.pdf; ComponentLink3Description: Packaging Specification; ComponentLink3URL: http://sg.renesas.com/media/products/common_info/package/pdf/transistor/code/prss0003ad_a.pdf
footprint PRSS0003AD-A (TO, Thru-Hole, Vertical, Heatsink Mounted; 3 In-Line Leads; Pitch 2.54 mm)
pins: 1 G, 2 D, 3 S

## 2SK3161L
designator Q?
Silicon N-Channel MOSFET, High Speed Power Switching; Published: 30-Oct-2009; DatasheetVersion: Rev.3.00, Sep-2005; PackageVersion: Sep-2005; PackageReference: PRSS0004AE-A; Publisher: Altium Limited; PackageDescription: TO, Thru-Hole, Vertical, Heatsink Mounted; 3 In-Line Leads; Pitch 2.54 mm (LDPAK(L)); ComponentLink1Description: Manufacturer Link; ComponentLink1URL: http://sg.renesas.com/fmwk.jsp?cnt=discrete_category_landing.jsp&fp=/products/discrete/; ComponentLink2Description: Datasheet; ComponentLink2URL: http://documentation.renesas.com/eng/products/transistor/rej03g1086_2sk3161lsds.pdf; ComponentLink3Description: Packaging Specification; ComponentLink3URL: http://sg.renesas.com/media/products/common_info/package/pdf/transistor/code/prss0004ae_a.pdf
footprint PRSS0004AE-A (TO, Thru-Hole, Vertical, Heatsink Mounted; 3 In-Line Leads; Pitch 2.54 mm)
pins: 1 G, 2 D, 3 S

## 2SK3161S
designator Q?
Silicon N-Channel MOSFET, High Speed Power Switching; Published: 30-Oct-2009; DatasheetVersion: Rev.3.00, Sep-2005; PackageVersion: Sep-2005; PackageReference: PRSS0004AE-B; Publisher: Altium Limited; PackageDescription: 3-Pin Plastic Transistor Outline Package 8.6 x 10.2 mm Body (LDPAK(S)-(1)); Code_JEITA: SC-83; ComponentLink1Description: Manufacturer Link; ComponentLink1URL: http://sg.renesas.com/fmwk.jsp?cnt=discrete_category_landing.jsp&fp=/products/discrete/; ComponentLink2Description: Datasheet; ComponentLink2URL: http://documentation.renesas.com/eng/products/transistor/rej03g1086_2sk3161lsds.pdf; ComponentLink3Description: Packaging Specification; ComponentLink3URL: http://sg.renesas.com/media/products/common_info/package/pdf/transistor/code/prss0004ae_b.pdf
footprint PRSS0004AE-B_N (TO, 4-Leads, Body 8.6x10.2mm, Pitch 2.54mm, Lead Span 12.8mm, IPC Medium Density)
footprint PRSS0004AE-B_L (TO, 4-Leads, Body 8.6x10.2mm, Pitch 2.54mm, Lead Span 12.8mm, IPC High Density)
footprint PRSS0004AE-B_M (TO, 4-Leads, Body 8.6x10.2mm, Pitch 2.54mm, Lead Span 12.8mm, IPC Low Density)
pins: 1 G, 3 S, 4 D

## 2SK3162
designator Q?
Silicon N-Channel MOSFET, High Speed Power Switching; Published: 30-Oct-2009; DatasheetVersion: Rev.4.00, Sep-2005; PackageVersion: Sep-2005; PackageReference: PRSS0003AD-A; Publisher: Altium Limited; PackageDescription: TO, Thru-Hole, Vertical, Heatsink Mounted; 3 In-Line Leads; Pitch 2.54 mm; Code_JEITA: SC-67; ComponentLink1Description: Manufacturer Link; ComponentLink1URL: http://sg.renesas.com/fmwk.jsp?cnt=discrete_category_landing.jsp&fp=/products/discrete/; ComponentLink2Description: Datasheet; ComponentLink2URL: http://documentation.renesas.com/eng/products/transistor/rej03g1087_2sk3162ds.pdf; ComponentLink3Description: Packaging Specification; ComponentLink3URL: http://sg.renesas.com/media/products/common_info/package/pdf/transistor/code/prss0003ad_a.pdf
footprint PRSS0003AD-A (TO, Thru-Hole, Vertical, Heatsink Mounted; 3 In-Line Leads; Pitch 2.54 mm)
pins: 1 G, 2 D, 3 S

## 2SK3163
designator Q?
Silicon N-Channel MOSFET, High Speed Power Switching; Published: 30-Oct-2009; DatasheetVersion: Rev.3.00, Sep-2005; PackageVersion: Sep-2005; PackageReference: PRSS0004ZE-A; Publisher: Altium Limited; PackageDescription: TO, Thru-Hole, Vertical, Heatsink Mounted; 3 In-Line Leads; Pitch 5.45 mm (TO-3P); Code_JEITA: SC-65; ComponentLink1Description: Manufacturer Link; ComponentLink1URL: http://sg.renesas.com/fmwk.jsp?cnt=discrete_category_landing.jsp&fp=/products/discrete/; ComponentLink2Description: Datasheet; ComponentLink2URL: http://documentation.renesas.com/eng/products/transistor/rej03g1088_2sk3163ds.pdf; ComponentLink3Description: Packaging Specification; ComponentLink3URL: http://sg.renesas.com/media/products/common_info/package/pdf/transistor/code/prss0004ze_a.pdf
footprint PRSS0004ZE-A (TO, Thru-Hole, Vertical, Heatsink Mounted; 3 In-Line Leads; Pitch 5.45 mm)
pins: 1 G, 2 D, 3 S

## 2SK3177
designator Q?
Silicon N-Channel MOSFET, High Speed Power Switching; Published: 30-Oct-2009; DatasheetVersion: Rev.3.00, Sep-2005; PackageVersion: Sep-2005; PackageReference: PRSS0003AD-A; Publisher: Altium Limited; PackageDescription: TO, Thru-Hole, Vertical, Heatsink Mounted; 3 In-Line Leads; Pitch 2.54 mm; Code_JEITA: SC-67; ComponentLink1Description: Manufacturer Link; ComponentLink1URL: http://sg.renesas.com/fmwk.jsp?cnt=discrete_category_landing.jsp&fp=/products/discrete/; ComponentLink2Description: Datasheet; ComponentLink2URL: http://documentation.renesas.com/eng/products/transistor/rej03g1089_2sk3177ds.pdf; ComponentLink3Description: Packaging Specification; ComponentLink3URL: http://sg.renesas.com/media/products/common_info/package/pdf/transistor/code/prss0003ad_a.pdf
footprint PRSS0003AD-A (TO, Thru-Hole, Vertical, Heatsink Mounted; 3 In-Line Leads; Pitch 2.54 mm)
pins: 1 G, 2 D, 3 S

## 2SK3209
designator Q?
Silicon N-Channel MOSFET, High Speed Power Switching; Published: 30-Oct-2009; DatasheetVersion: Rev.3.00, Sep-2005; PackageVersion: Sep-2005; PackageReference: PRSS0003AD-A; Publisher: Altium Limited; PackageDescription: TO, Thru-Hole, Vertical, Heatsink Mounted; 3 In-Line Leads; Pitch 2.54 mm; Code_JEITA: SC-67; ComponentLink1Description: Manufacturer Link; ComponentLink1URL: http://sg.renesas.com/fmwk.jsp?cnt=discrete_category_landing.jsp&fp=/products/discrete/; ComponentLink2Description: Datasheet; ComponentLink2URL: http://documentation.renesas.com/eng/products/transistor/rej03g1090_2sk3209ds.pdf; ComponentLink3Description: Packaging Specification; ComponentLink3URL: http://sg.renesas.com/media/products/common_info/package/pdf/transistor/code/prss0003ad_a.pdf
footprint PRSS0003AD-A (TO, Thru-Hole, Vertical, Heatsink Mounted; 3 In-Line Leads; Pitch 2.54 mm)
pins: 1 G, 2 D, 3 S

## 2SK3211L
designator Q?
Silicon N-Channel MOSFET, High Speed Power Switching; Published: 30-Oct-2009; DatasheetVersion: Rev.4.00, May-2006; PackageVersion: Sep-2005; PackageReference: PRSS0004AE-A; Publisher: Altium Limited; PackageDescription: TO, Thru-Hole, Vertical, Heatsink Mounted; 3 In-Line Leads; Pitch 2.54 mm (LDPAK(L)); ComponentLink1Description: Manufacturer Link; ComponentLink1URL: http://sg.renesas.com/fmwk.jsp?cnt=discrete_category_landing.jsp&fp=/products/discrete/; ComponentLink2Description: Datasheet; ComponentLink2URL: http://documentation.renesas.com/eng/products/transistor/rej03g1091_2sk3211lsds.pdf; ComponentLink3Description: Packaging Specification; ComponentLink3URL: http://sg.renesas.com/media/products/common_info/package/pdf/transistor/code/prss0004ae_a.pdf
footprint PRSS0004AE-A (TO, Thru-Hole, Vertical, Heatsink Mounted; 3 In-Line Leads; Pitch 2.54 mm)
pins: 1 G, 2 D, 3 S

## 2SK3211S
designator Q?
Silicon N-Channel MOSFET, High Speed Power Switching; Published: 30-Oct-2009; DatasheetVersion: Rev.4.00, May-2006; PackageVersion: Sep-2005; PackageReference: PRSS0004AE-B; Publisher: Altium Limited; PackageDescription: 3-Pin Plastic Transistor Outline Package 8.6 x 10.2 mm Body (LDPAK(S)-(1)); Code_JEITA: SC-83; ComponentLink1Description: Manufacturer Link; ComponentLink1URL: http://sg.renesas.com/fmwk.jsp?cnt=discrete_category_landing.jsp&fp=/products/discrete/; ComponentLink2Description: Datasheet; ComponentLink2URL: http://documentation.renesas.com/eng/products/transistor/rej03g1091_2sk3211lsds.pdf; ComponentLink3Description: Packaging Specification; ComponentLink3URL: http://sg.renesas.com/media/products/common_info/package/pdf/transistor/code/prss0004ae_b.pdf
footprint PRSS0004AE-B_N (TO, 4-Leads, Body 8.6x10.2mm, Pitch 2.54mm, Lead Span 12.8mm, IPC Medium Density)
footprint PRSS0004AE-B_L (TO, 4-Leads, Body 8.6x10.2mm, Pitch 2.54mm, Lead Span 12.8mm, IPC High Density)
footprint PRSS0004AE-B_M (TO, 4-Leads, Body 8.6x10.2mm, Pitch 2.54mm, Lead Span 12.8mm, IPC Low Density)
pins: 1 G, 3 S, 4 D

## 2SK3212
designator Q?
Silicon N-Channel MOSFET, High Speed Power Switching; Published: 30-Oct-2009; DatasheetVersion: Rev.3.00, Sep-2005; PackageVersion: Sep-2005; PackageReference: PRSS0003AD-A; Publisher: Altium Limited; PackageDescription: TO, Thru-Hole, Vertical, Heatsink Mounted; 3 In-Line Leads; Pitch 2.54 mm; Code_JEITA: SC-67; ComponentLink1Description: Manufacturer Link; ComponentLink1URL: http://sg.renesas.com/fmwk.jsp?cnt=discrete_category_landing.jsp&fp=/products/discrete/; ComponentLink2Description: Datasheet; ComponentLink2URL: http://documentation.renesas.com/eng/products/transistor/rej03g1092_2sk3212ds.pdf; ComponentLink3Description: Packaging Specification; ComponentLink3URL: http://sg.renesas.com/media/products/common_info/package/pdf/transistor/code/prss0003ad_a.pdf
footprint PRSS0003AD-A (TO, Thru-Hole, Vertical, Heatsink Mounted; 3 In-Line Leads; Pitch 2.54 mm)
pins: 1 G, 2 D, 3 S

## 2SK3228
designator Q?
Silicon N-Channel MOSFET, High Speed Power Switching; Published: 30-Oct-2009; DatasheetVersion: Rev.4.00, May-2006; PackageVersion: Sep-2005; PackageReference: PRSS0004AC-A; Publisher: Altium Limited; PackageDescription: TO, Thru-Hole, Vertical, Heatsink Mounted; 3 In-Line Leads; Pitch 2.54 mm (TO-220AB); Code_JEITA: SC-46; ComponentLink1Description: Manufacturer Link; ComponentLink1URL: http://sg.renesas.com/fmwk.jsp?cnt=discrete_category_landing.jsp&fp=/products/discrete/; ComponentLink2Description: Datasheet; ComponentLink2URL: http://documentation.renesas.com/eng/products/transistor/rej03g1094_2sk3228ds.pdf; ComponentLink3Description: Packaging Specification; ComponentLink3URL: http://sg.renesas.com/media/products/common_info/package/pdf/transistor/code/prss0004ac_a.pdf
footprint PRSS0004AC-A (TO, Thru-Hole, Vertical, Heatsink Mounted; 3 In-Line Leads; Pitch 2.54 mm)
pins: 1 G, 2 D, 3 S

## 2SK3229
designator Q?
Silicon N-Channel MOSFET, High Speed Power Switching; Published: 30-Oct-2009; DatasheetVersion: Rev.2.00, Sep-2005; PackageVersion: Sep-2005; PackageReference: PRSS0003AE-A; Publisher: Altium Limited; PackageDescription: TO, Thru-Hole, Vertical, Heatsink Mounted; 3 In-Line Leads; Pitch 2.54 mm (TO-220FN); ComponentLink1Description: Manufacturer Link; ComponentLink1URL: http://sg.renesas.com/fmwk.jsp?cnt=discrete_category_landing.jsp&fp=/products/discrete/; ComponentLink2Description: Datasheet; ComponentLink2URL: http://documentation.renesas.com/eng/products/transistor/rej03g1095_2sk3229ds.pdf; ComponentLink3Description: Packaging Specification; ComponentLink3URL: http://sg.renesas.com/media/products/common_info/package/pdf/transistor/code/prss0003ae_a.pdf
footprint PRSS0003AE-A (TO, Thru-Hole, Vertical, Heatsink Mounted; 3 In-Line Leads; Pitch 2.54 mm)
pins: 1 G, 2 D, 3 S

## 2SK3274L
designator Q?
Silicon N-Channel MOSFET, High Speed Power Switching; Published: 30-Oct-2009; DatasheetVersion: Rev.3.00, May-2006; PackageVersion: Sep-2005; PackageReference: PRSS0004ZD-B; Publisher: Altium Limited; PackageDescription: TO, Thru-Hole, Vertical, Heatsink Mounted; 3 In-Line Leads (DPAK(L)-(2)); ComponentLink1Description: Manufacturer Link; ComponentLink1URL: http://sg.renesas.com/fmwk.jsp?cnt=discrete_category_landing.jsp&fp=/products/discrete/; ComponentLink2Description: Datasheet; ComponentLink2URL: http://documentation.renesas.com/eng/products/transistor/rej03g1098_2sk3274lsds.pdf; ComponentLink3Description: Packaging Specification; ComponentLink3URL: http://sg.renesas.com/media/products/common_info/package/pdf/transistor/code/prss0004zd_b.pdf
footprint PRSS0004ZD-B (TO, Thru-Hole, Vertical, Heatsink Mounted; 3 In-Line Leads; Pitch 2.28 mm)
pins: 1 G, 2 D, 3 S

## 2SK3274S
designator Q?
Silicon N-Channel MOSFET, High Speed Power Switching; Published: 30-Oct-2009; DatasheetVersion: Rev.3.00, May-2006; PackageVersion: Jan-2006; PackageReference: PRSS0004ZD-C; Publisher: Altium Limited; PackageDescription: 3-Pin Plastic Transistor Outline Package, 5.5 x 6.5 mm Body (DPAK(S)); Code_JEITA: SC-63; ComponentLink1Description: Manufacturer Link; ComponentLink1URL: http://sg.renesas.com/fmwk.jsp?cnt=discrete_category_landing.jsp&fp=/products/discrete/; ComponentLink2Description: Datasheet; ComponentLink2URL: http://documentation.renesas.com/eng/products/transistor/rej03g1098_2sk3274lsds.pdf; ComponentLink3Description: Packaging Specification; ComponentLink3URL: http://sg.renesas.com/media/products/common_info/package/pdf/transistor/code/prss0004zd_c.pdf
footprint PRSS0004ZD-C_N (D-PAK, 4-Leads, Body 5.5x6.5mm, Pitch 2.3mm, Lead Span 9.9mm, IPC Medium Density)
footprint PRSS0004ZD-C_L (D-PAK, 4-Leads, Body 5.5x6.5mm, Pitch 2.3mm, Lead Span 9.9mm, IPC High Density)
footprint PRSS0004ZD-C_M (D-PAK, 4-Leads, Body 5.5x6.5mm, Pitch 2.3mm, Lead Span 9.9mm, IPC Low Density)
pins: 1 G, 3 S, 4 D

## 2SK3290
designator Q?
Silicon N-Channel MOSFET, High Speed Switching; Published: 30-Oct-2009; DatasheetVersion: Rev.3.0, Dec-1998; PackageVersion: Sep-2005; PackageReference: PLSP0003ZB-A; Publisher: Altium Limited; PackageDescription: 3-Pin Plastic SOT-23 Package 0.95 mm Pitch, 2.8 mm Lead Span - Alternate Lead Configuration; Code_JEITA: SC-59A; ComponentLink1Description: Manufacturer Link; ComponentLink1URL: http://sg.renesas.com/fmwk.jsp?cnt=discrete_category_landing.jsp&fp=/products/discrete/; ComponentLink2Description: Datasheet; ComponentLink2URL: http://documentation.renesas.com/eng/products/transistor/e208744_2sk3290.pdf; ComponentLink3Description: Packaging Specification; ComponentLink3URL: http://sg.renesas.com/media/products/common_info/package/pdf/transistor/code/plsp0003zb_a.pdf
footprint PLSP0003ZB-A_N (SOT23, 3-Leads, Body 2.9x1.5mm, Pitch 0.95mm, Lead Span 2.8mm - Alternate Lead Configuration, IPC Medium Density)
footprint PLSP0003ZB-A_L (SOT23, 3-Leads, Body 2.9x1.5mm, Pitch 0.95mm, Lead Span 2.8mm - Alternate Lead Configuration, IPC High Density)
footprint PLSP0003ZB-A_M (SOT23, 3-Leads, Body 2.9x1.5mm, Pitch 0.95mm, Lead Span 2.8mm - Alternate Lead Configuration, IPC Low Density)
pins: 1 S, 2 G, 3 D

## 2SK3378
designator Q?
Silicon N-Channel MOSFET, High Speed Switching; Published: 30-Oct-2009; DatasheetVersion: Rev.2.00, Oct-2007; PackageVersion: Jul-2006; PackageReference: PTSP0003ZA-A; Publisher: Altium Limited; PackageDescription: 3-Pin Plastic SOT-23 Package 0.65 mm Pitch, 2.1 mm Lead Span (CMPAK); Code_JEITA: SC-70; ComponentLink1Description: Manufacturer Link; ComponentLink1URL: http://sg.renesas.com/fmwk.jsp?cnt=discrete_category_landing.jsp&fp=/products/discrete/; ComponentLink2Description: Datasheet; ComponentLink2URL: http://documentation.renesas.com/eng/products/transistor/rej03g1599_2sk3378ds.pdf; ComponentLink3Description: Packaging Specification; ComponentLink3URL: http://sg.renesas.com/media/products/common_info/package/pdf/transistor/code/ptsp0003za_a.pdf
footprint PTSP0003ZA-A_N (SOT23, 3-Leads, Body 2.0 x1.25mm, Pitch 0.65mm, Lead Span 2.1mm, IPC Medium Density)
footprint PTSP0003ZA-A_L (SOT23, 3-Leads, Body 2.0 x1.25mm, Pitch 0.65mm, Lead Span 2.1mm, IPC High Density)
footprint PTSP0003ZA-A_M (SOT23, 3-Leads, Body 2.0 x1.25mm, Pitch 0.65mm, Lead Span 2.1mm, IPC Low Density)
pins: 1 S, 2 G, 3 D